# EAGLE library part RJ45_MAG_LED_1G (library RJ Connector)
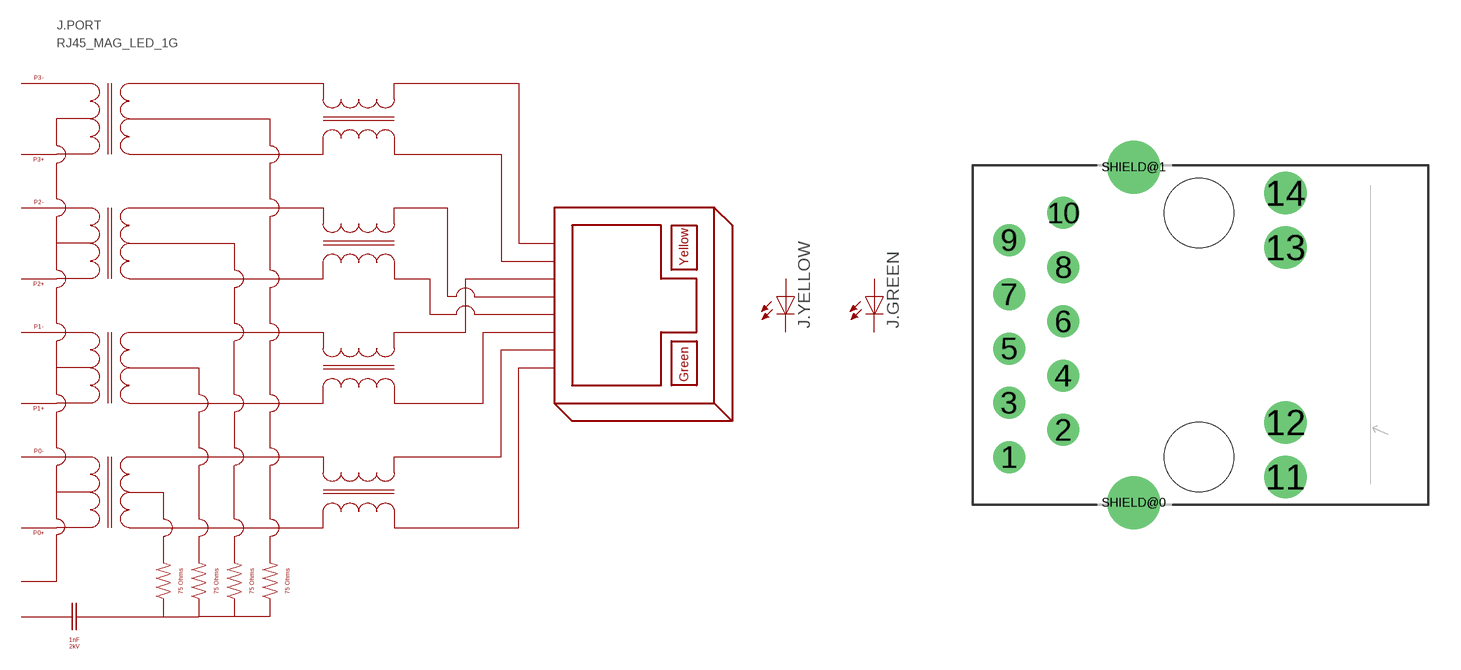
[diagram p5: symbol with the pads of TE-1-2301994-0; footprint TE-1-2301994-0]

Designator prefix J; gates .YELLOW=LED .GREEN=LED .PORT=8P_MAG_1G

## RJ45_MAG_LED_1G-TE-1-2301994-0  [TE-1-2301994-0]
1  .PORT:CT
2  .PORT:P0+
3  .PORT:P0-
4  .PORT:P1+
5  .PORT:P2+
6  .PORT:P2-
7  .PORT:P1-
8  .PORT:P3+
9  .PORT:P3-
10  .PORT:CHS_GND
11  .GREEN:A  pas
12  .GREEN:C  pas
13  .YELLOW:A  pas
14  .YELLOW:C  pas
SHIELD@0  .PORT:CHS_GND
SHIELD@1  .PORT:CHS_GND

## Footprint TE-1-2301994-0 (pad centres in mm)
RJ45 RJ45 jacks side mounted http://www.tycoelectronics.com
drill 0.89 pad 1.5: 1 -8.89,-5.715; 2 -6.35,-4.445; 3 -8.89,-3.175; 4 -6.35,-1.905; 5 -8.89,-0.635; 6 -6.35,0.635; 7 -8.89,1.905; 8 -6.35,3.175; 9 -8.89,4.445; 10 -6.35,5.715
drill 1.2 pad 2: 11 4.06,-6.645; 12 4.06,-4.095; 13 4.06,4.095; 14 4.06,6.645
drill 1.6 pad 2.5: SHIELD@0 -3.05,-7.855; SHIELD@1 -3.05,7.855
hole 3.25 at 0,-5.715
hole 3.25 at 0,5.715